# Altium schematic symbol library VS1003_LQFP48.SchLib: 1 symbol
Pins are listed as number, name and electrical type; pins without a type are passive.

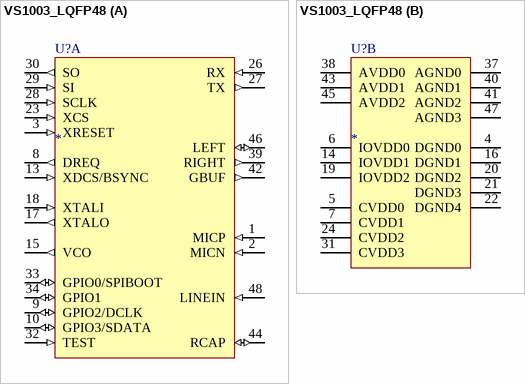
[diagram p0: symbol VS1003_LQFP48]

## VS1003_LQFP48
designator U?
part A pins: 1 MICP (in), 2 MICN (in), 3 XRESET (in), 8 DREQ (out), 9 GPIO2/DCLK (io), 10 GPIO3/SDATA (io), 13 XDCS/BSYNC (in), 15 VCO (out), 17 XTALO (out), 18 XTALI (in), 23 XCS (in), 26 RX (in), 27 TX (out), 28 SCLK (in), 29 SI (in), 30 SO (out), 32 TEST (in), 33 GPIO0/SPIBOOT (io), 34 GPIO1 (io), 39 RIGHT (out), 42 GBUF (out), 44 RCAP (io), 46 LEFT (io), 48 LINEIN (in)
part B pins: 4 DGND0 (power), 5 CVDD0 (power), 6 IOVDD0 (power), 7 CVDD1 (power), 14 IOVDD1 (power), 16 DGND1 (power), 19 IOVDD2 (power), 20 DGND2 (power), 21 DGND3 (power), 22 DGND4 (power), 24 CVDD2 (power), 31 CVDD3 (power), 37 AGND0 (power), 38 AVDD0 (power), 40 AGND1 (power), 41 AGND2 (power), 43 AVDD1 (power), 45 AVDD2 (power), 47 AGND3 (power)